# Altium footprint library 4mm2pin.PcbLib: 1 footprints
Each footprint in its own frame and in the unit in brackets; x right, y up, seen from the top. Pads: shape width x height; smd on the part's side, far side on the other; paste and mask are expansions set on the pad; w line width, h text height; cw(c..) or ccw(c..) is an arc to the next point about the centre after c.
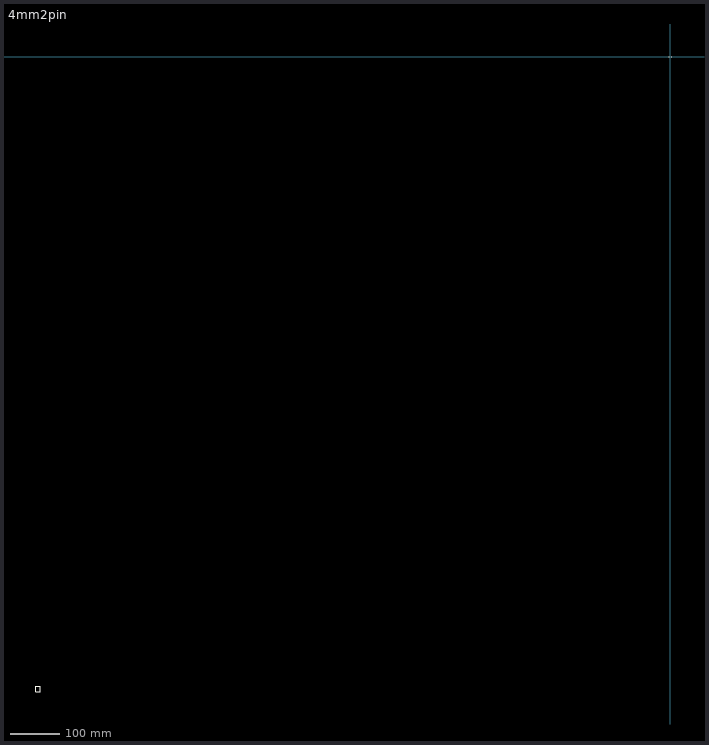
[diagram p0: the footprint, top view; thin cyan lines are the x and y axes]

## 4mm2pin [mm] "4mm2pin"
pads (2):
  oval 2.5x3 hole 1.5: 1(-2.5,-0.25) 2(2.5,-0.25)
Top Overlay:
  lines w0.15: -1274.5,-1275.5 -1274.5,-1264.5 -1265.5,-1264.5 -1265.5,-1275.5 -1274.5,-1275.5